# Altium footprint library TCA9406DCTR.PcbLib: 1 footprints
Each footprint in its own frame and in the unit in brackets; x right, y up, seen from the top. Pads: shape width x height; smd on the part's side, far side on the other; paste and mask are expansions set on the pad; w line width, h text height; cw(c..) or ccw(c..) is an arc to the next point about the centre after c.
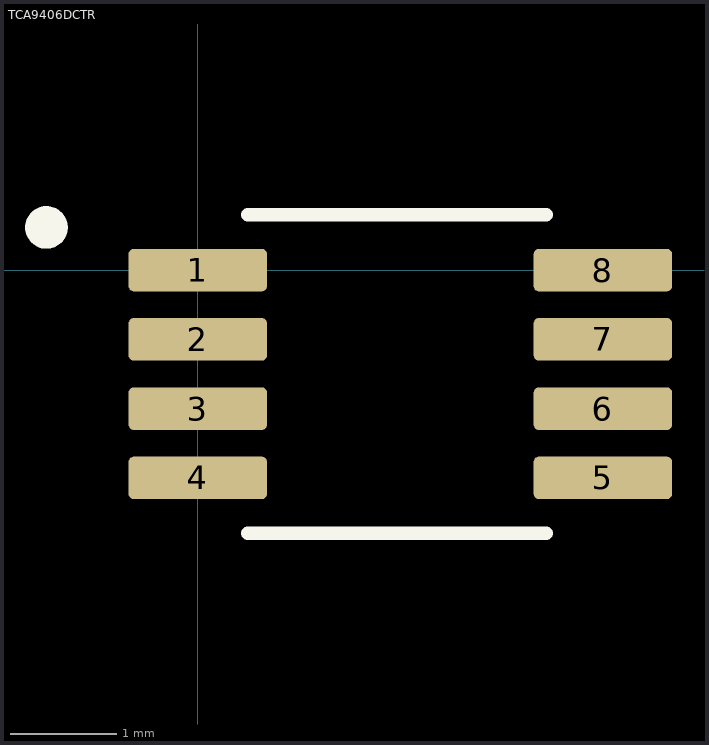
[diagram p0: the footprint, top view; thin cyan lines are the x and y axes]

## TCA9406DCTR [mm]
pads (8):
  rrect25% 1.3x0.4 smd: 1(0,0) 2(0,-0.65) 3(0,-1.3) 4(0,-1.95) 5(3.8,-1.95) 6(3.8,-1.3) 7(3.8,-0.65) 8(3.8,0)
Top Overlay:
  circle w0.2: c-1.42,0.4 r0.1
  lines w0.127: 0.47,-2.47 3.27,-2.47 ; 0.47,0.52 3.27,0.52
3D body "TCA9406DCTR.STEP": height 1.3, standoff 0, extent -0.1,-2.45 3.9,0.5